# Altium schematic symbol library WL-SFCD.SchLib: 3 symbols
Pins are listed as number, name and electrical type; pins without a type are passive.

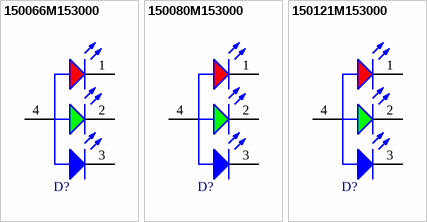
[diagram p0: symbols 150066M153000 to 150121M153000]

## 150066M153000
designator D?, comment Red & Green & Blue, 120°  (value not drawn)
WL-SFCD SMT Full-color Chip LED Diffused, size 0606, Red & Green & Blue, 120°; Manufacturer Part Number: 150066M153000; Manufacturer: Wurth Elektronik; Case/Size Code: 0606; Chip Technology: AlInGaP + InGaN; Dominant Wavelength (Blue): 470nm; Dominant Wavelength (Green): 525nm; Dominant Wavelength (Red): 624nm; Forward Voltage (Blue): 3.3V; Forward Voltage (Red): 2V; Luminous Intensity (Blue): 180mcd; Luminous Intensity (Green): 900mcd; Luminous Intensity (Red): 285mcd; Peak Wavelength (Blue): 468nm; Peak Wavelength (Green): 520nm; Peak Wavelength (Red): 632nm; Category: Signal LEDs; Match Code: WL-SFCD; ComponentLink1Description: Website Link; ComponentLink1URL: https://www.we-online.com/redexpert/article/150066M153000?ad; ComponentLink2Description: Datasheet Link; ComponentLink2URL: https://www.we-online.com/redexpert/spec/150066M153000?ad; Mount: Surface Mount; Operating Temperature Max: 85°C; Operating Temperature Min: -40°C; Packaging: Tape and Reel; Length: 1.6mm; Width: 1.6mm; Height: 0.4mm; Emitting Color: Red & Green & Blue; Forward Voltage (Green): 3.3V; Viewing Angle: 120°
footprint WL-SFCD_0606
simulation model 0606_150066M153000
pins: 1 K, 2 K, 3 K, 4 A

## 150080M153000
designator D?, comment Red & Green & Blue, 120°  (value not drawn)
WL-SFCD SMT Full-color Chip LED Diffused, size 0805, Red & Green & Blue, 120°; Manufacturer Part Number: 150080M153000; Manufacturer: Wurth Elektronik; Case/Size Code: 0805; Chip Technology: AlInGaP + InGaN; Dominant Wavelength (Blue): 470nm; Dominant Wavelength (Green): 525nm; Dominant Wavelength (Red): 624nm; Forward Voltage (Blue): 3.3V; Forward Voltage (Red): 2V; Luminous Intensity (Blue): 70mcd; Luminous Intensity (Green): 285mcd; Luminous Intensity (Red): 112mcd; Peak Wavelength (Blue): 468nm; Peak Wavelength (Green): 520nm; Peak Wavelength (Red): 632nm; Category: Signal LEDs; Match Code: WL-SFCD; ComponentLink1Description: Website Link; ComponentLink1URL: https://www.we-online.com/redexpert/article/150080M153000?ad; ComponentLink2Description: Datasheet Link; ComponentLink2URL: https://www.we-online.com/redexpert/spec/150080M153000?ad; Mount: Surface Mount; Operating Temperature Max: 85°C; Operating Temperature Min: -40°C; Packaging: Tape and Reel; Length: 2mm; Width: 1.3mm; Height: 0.5mm; Emitting Color: Red & Green & Blue; Forward Voltage (Green): 3.3V; Viewing Angle: 120°
footprint WL-SFCD_0805
simulation model 0805_150080M153000
pins: 1 K, 2 K, 3 K, 4 A

## 150121M153000
designator D?, comment Red & Green & Blue, 120°  (value not drawn)
WL-SFCD SMT Full-color Chip LED Diffused, size 1210, Red & Green & Blue, 120°; Manufacturer Part Number: 150121M153000; Manufacturer: Wurth Elektronik; Case/Size Code: 1210; Chip Technology: AlInGaP + InGaN; Dominant Wavelength (Blue): 470nm; Dominant Wavelength (Green): 525nm; Dominant Wavelength (Red): 624nm; Forward Voltage (Blue): 3.3V; Forward Voltage (Red): 2V; Luminous Intensity (Blue): 80mcd; Luminous Intensity (Green): 180mcd; Luminous Intensity (Red): 70mcd; Peak Wavelength (Blue): 468nm; Peak Wavelength (Green): 520nm; Peak Wavelength (Red): 632nm; Category: Signal LEDs; Match Code: WL-SFCD; ComponentLink1Description: Website Link; ComponentLink1URL: https://www.we-online.com/redexpert/article/150121M153000?ad; ComponentLink2Description: Datasheet Link; ComponentLink2URL: https://www.we-online.com/redexpert/spec/150121M153000?ad; Mount: Surface Mount; Operating Temperature Max: 85°C; Operating Temperature Min: -40°C; Packaging: Tape and Reel; Length: 3.2mm; Width: 2.7mm; Height: 1.1mm; Emitting Color: Red & Green & Blue; Forward Voltage (Green): 3.3V; Viewing Angle: 120°
footprint WL-SFCD_1210
simulation model 1210_150121M153000
pins: 1 K, 2 K, 3 K, 4 A